# Altium footprint library LibMoritz.PcbLib: 10 footprints
Each footprint in its own frame and in the unit in brackets; x right, y up, seen from the top. Pads: shape width x height; smd on the part's side, far side on the other; paste and mask are expansions set on the pad; w line width, h text height; cw(c..) or ccw(c..) is an arc to the next point about the centre after c.
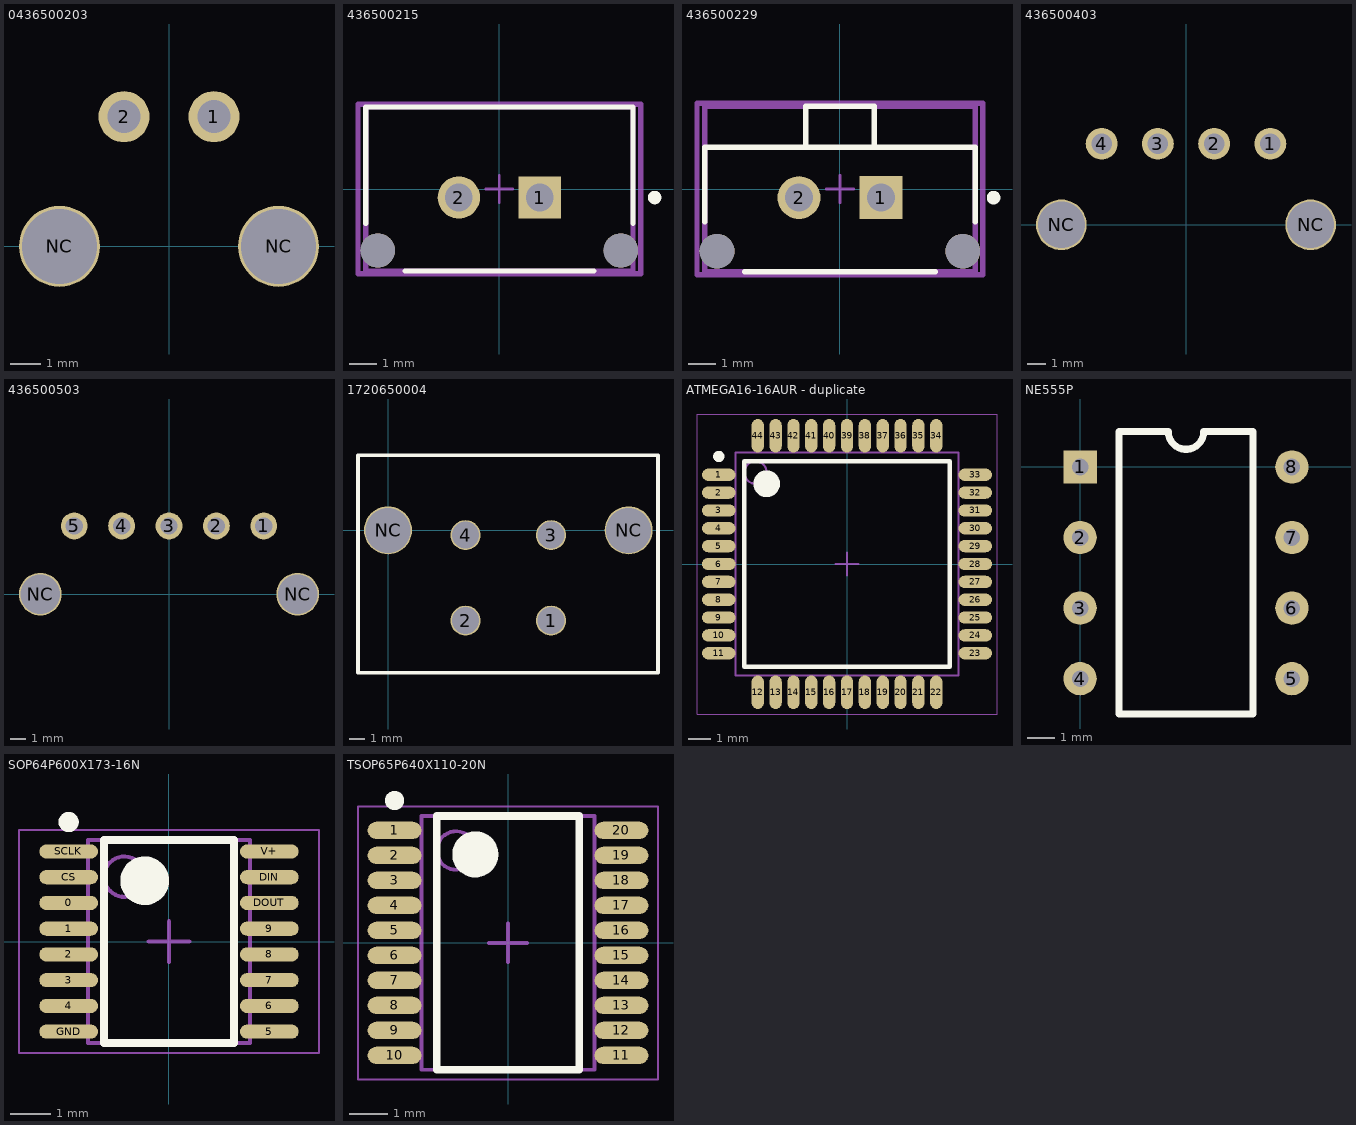
[diagram p0: the footprints below, top view; thin cyan lines are the x and y axes]

## 0436500203 [mm] "Micro-Fit 3.0 Right-Angle Header, 3.00mm Pitch, Single Row, 2 Circuits, with PCB Press-fit Metal Retention Clip, Tin, Glow-Wire Capable, Black"
pads (4):
  round 1.7 hole 1.1: 1(1.5,4.32) 2(-1.5,4.32)
  round 2.7 hole 2.5: NC(-3.65,0) NC(3.65,0)
3D body "436500203.stp": height 2.65, standoff -6.13, extent -4.825,-4.6 4.825,5.3

## 436500215 [mm] "Micro-Fit 3.0 Vertical Header, 3.00mm Pitch, Single Row, 2 Circuits"
pads (4):
  rect 1.57x1.57 hole 1.02 paste-1000 mask+0: 1(1.5,-0.315)
  round 1.57 hole 1.02 paste-1000 mask+0: 2(-1.5,-0.315)
  round 1.27 hole 1.27 unplated paste-1000 mask+0: ""(-4.5,-2.275) ""(4.5,-2.275)
Top Overlay:
  circle w0.25: c5.75,-0.315 r0.125
  lines w0.2: -4.95,-1.265 -4.95,3.035 4.95,3.035 4.95,-1.265 ; -3.49,-3.035 3.49,-3.035
Mechanical 10:
  lines w0.2: -5.235,-3.135 -5.235,3.135 5.235,3.135 5.235,-3.135 -5.235,-3.135
  text ".Designator" at 0,0.188 h1
Mechanical 12:
  lines w0.2: -4.95,-3.035 -4.95,3.035 4.95,3.035 4.95,-3.035 -4.95,-3.035
Mechanical 15:
  lines w0.1: -0.5,0 0.5,0 ; 0,-0.5 0,0.5
  lines w0.2: -5.235,-3.135 -5.235,3.135 5.235,3.135 5.235,-3.135 -5.235,-3.135
3D body "Conn_Molex_436500215_eec.STEP": height 0.25, standoff 0, extent -5.235,-3.135 5.235,3.135

## 436500229 [mm] "Micro-Fit 3.0 Vertical Header, 3.00mm Pitch, Single Row, 2 Circuits"
pads (4):
  rect 1.57x1.57 hole 1.02 paste-1000 mask+0: 1(1.5,-0.315)
  round 1.57 hole 1.02 paste-1000 mask+0: 2(-1.5,-0.315)
  round 1.27 hole 1.27 unplated paste-1000 mask+0: ""(-4.5,-2.275) ""(4.5,-2.275)
Top Overlay:
  circle w0.25: c5.625,-0.315 r0.125
  lines w0.2: -4.95,-1.2 -4.95,1.535 4.95,1.535 4.95,-1.2 ; -3.49,-3.035 3.49,-3.035 ; -1.25,1.535 -1.25,3.035 1.25,3.035 1.25,1.535
Mechanical 10:
  lines w0.2: -5.235,-3.135 -5.235,3.135 5.235,3.135 5.235,-3.135 -5.235,-3.135
  text ".Designator" at 0,0 h1
Mechanical 12:
  lines w0.2: -4.95,-3.035 -4.95,3.035 4.95,3.035 4.95,-3.035 -4.95,-3.035
Mechanical 15:
  lines w0.1: -0.5,0 0.5,0 ; 0,-0.5 0,0.5
  lines w0.2: -5.235,-3.135 -5.235,3.135 5.235,3.135 5.235,-3.135 -5.235,-3.135
3D body "Conn_Molex_43650-0229_eec.STEP": height 0.25, standoff 0, extent -5.235,-3.135 5.235,3.135

## 436500403 [mm] "Micro-Fit 3.0 Right-Angle Header, 3.00mm Pitch, Single Row, 4 Circuits, with PCB Press-fit Metal Retention Clip, Tin, Glow-Wire Capable, Black"
pads (6):
  round 1.7 hole 1.1: 1(4.5,4.32) 2(1.5,4.32) 3(-1.5,4.32) 4(-4.5,4.32)
  round 2.7 hole 2.5: NC(-6.65,0) NC(6.65,0)
3D body "436500403.stp": height 6.13, standoff -2.65, extent -7.825,-4.6 7.825,5.3

## 436500503 [mm] "Micro-Fit 3.0 Right-Angle Header, 3.00mm Pitch, Single Row, 5 Circuits, with PCB Press-fit Metal Retention Clip, Tin, Glow-Wire Capable, Black"
pads (7):
  round 1.7 hole 1.1: 1(6,4.32) 2(3,4.32) 3(0,4.32) 4(-3,4.32) 5(-6,4.32)
  round 2.7 hole 2.5: NC(-8.15,0) NC(8.15,0)
3D body "436500503.stp": height 6.13, standoff -2.65, extent -9.32,-4.6 9.32,5.3

## 1720650004 [mm] "Mega-Fit Vertical Header, Through Hole, 5.70mm Pitch, Dual Row, 4 Circuits, 0.38µm"
pads (6):
  round 2 hole 1.8: 1(10.87,-6.025) 2(5.17,-6.025) 3(10.87,-0.325) 4(5.17,-0.325)
  round 3.2 hole 3: NC(0,0) NC(16.04,0)
Top Overlay:
  lines w0.254: -2,-9.5 -2,5 18,5 18,-9.5 -2,-9.5
3D body "1720650004.stp": height 15.13, standoff -3.45, extent -1.546,-9.369 17.546,4.665

## ATMEGA16-16AUR - duplicate [mm] "8-Bit Mikrocontroller - MCU AVR,128KB FLASH 4KB EE 4KB SRAM"
height 1.2
pads (44):
  oval 1.5x0.55 smd: 1(-5.75,4) 2(-5.75,3.2) 3(-5.75,2.4) 4(-5.75,1.6) 5(-5.75,0.8) 6(-5.75,0) 7(-5.75,-0.8) 8(-5.75,-1.6) 9(-5.75,-2.4) 10(-5.75,-3.2) 11(-5.75,-4) 23(5.75,-4) 24(5.75,-3.2) 25(5.75,-2.4) 26(5.75,-1.6) 27(5.75,-0.8) 28(5.75,0) 29(5.75,0.8) 30(5.75,1.6) 31(5.75,2.4) 32(5.75,3.2) 33(5.75,4)
  oval 0.55x1.5 smd: 12(-4,-5.75) 13(-3.2,-5.75) 14(-2.4,-5.75) 15(-1.6,-5.75) 16(-0.8,-5.75) 17(0,-5.75) 18(0.8,-5.75) 19(1.6,-5.75) 20(2.4,-5.75) 21(3.2,-5.75) 22(4,-5.75) 34(4,5.75) 35(3.2,5.75) 36(2.4,5.75) 37(1.6,5.75) 38(0.8,5.75) 39(0,5.75) 40(-0.8,5.75) 41(-1.6,5.75) 42(-2.4,5.75) 43(-3.2,5.75) 44(-4,5.75)
Top Overlay:
  circle w0.25: c-5.75,4.825 r0.125
  circle w0.6: c-3.6,3.6 r0.3
  lines w0.2: -4.6,-4.6 -4.6,4.6 4.6,4.6 4.6,-4.6 -4.6,-4.6
Mechanical 13:
  circle w0.1: c-4.1,4.1 r0.5
  lines w0.1: -5,-5 -5,5 5,5 5,-5 -5,-5
Mechanical 15:
  lines w0.05: -6.725,-6.725 -6.725,6.725 6.725,6.725 6.725,-6.725 -6.725,-6.725
  lines w0.1: -0.5,0 0.5,0 ; 0,-0.5 0,0.5
3D body "TQFP80P1200X1200X120-44N.step": height 1.2, standoff 0, extent -6,-6 6,6

## NE555P [mm]
pads (8):
  rect 1.2x1.2 hole 0.6: 1(0,0)
  round 1.2 hole 0.6: 2(0,-2.54) 3(0,-5.08) 4(0,-7.62) 5(7.62,-7.62) 6(7.62,-5.08) 7(7.62,-2.54) 8(7.62,0)
Top Overlay:
  lines w0.254: 1.399,-8.89 6.221,-8.89 6.221,1.27 4.445,1.27 cw(c3.81,1.27) 3.175,1.27 1.399,1.27 1.399,-8.89

## SOP64P600X173-16N [mm] "SOP, 16-Leads, Body 4,90x3,90mm, Pitch 0,64mm, IPC Medium Density"
height 1.73
pads (16):
  oval 1.45x0.35 smd: 0(-2.475,0.953) 1(-2.475,0.318) 2(-2.475,-0.318) 3(-2.475,-0.953) 4(-2.475,-1.587) 5(2.475,-2.222) 6(2.475,-1.587) 7(2.475,-0.953) 8(2.475,-0.318) 9(2.475,0.318) CS(-2.475,1.587) DIN(2.475,1.587) DOUT(2.475,0.953) GND(-2.475,-2.222) SCLK(-2.475,2.222) V+(2.475,2.222)
Top Overlay:
  circle w0.6: c-0.6,1.5 r0.3
  circle w0.25: c-2.475,2.947 r0.125
  lines w0.2: -1.6,-2.5 1.6,-2.5 1.6,2.5 -1.6,2.5 -1.6,-2.5
Mechanical 13:
  circle w0.1: c-1.1,1.6 r0.5
  lines w0.1: -2,-2.5 2,-2.5 2,2.5 -2,2.5 -2,-2.5
Mechanical 15:
  lines w0.05: -3.7,-2.75 3.7,-2.75 3.7,2.75 -3.7,2.75 -3.7,-2.75
  lines w0.1: -0.5,0 0.5,0 ; 0,-0.5 0,0.5
3D body: height 1.73, standoff 0.1, extent -2,-2.5 2,2.5

## TSOP65P640X110-20N [mm] "TSOP, 20-Leads, Body 6,50x4,40mm, Pitch 0,65mm, IPC Medium Density"
height 1.1
pads (20):
  oval 1.4x0.45 smd: 1(-2.95,2.925) 2(-2.95,2.275) 3(-2.95,1.625) 4(-2.95,0.975) 5(-2.95,0.325) 6(-2.95,-0.325) 7(-2.95,-0.975) 8(-2.95,-1.625) 9(-2.95,-2.275) 10(-2.95,-2.925) 11(2.95,-2.925) 12(2.95,-2.275) 13(2.95,-1.625) 14(2.95,-0.975) 15(2.95,-0.325) 16(2.95,0.325) 17(2.95,0.975) 18(2.95,1.625) 19(2.95,2.275) 20(2.95,2.925)
Top Overlay:
  circle w0.25: c-2.95,3.7 r0.125
  circle w0.6: c-0.85,2.3 r0.3
  lines w0.2: -1.85,-3.3 -1.85,3.3 1.85,3.3 1.85,-3.3 -1.85,-3.3
Mechanical 13:
  circle w0.1: c-1.35,2.4 r0.5
  lines w0.1: -2.25,-3.3 -2.25,3.3 2.25,3.3 2.25,-3.3 -2.25,-3.3
Mechanical 15:
  lines w0.05: -3.9,-3.55 -3.9,3.55 3.9,3.55 3.9,-3.55 -3.9,-3.55
  lines w0.1: -0.5,0 0.5,0 ; 0,-0.5 0,0.5
3D body: height 1.1, standoff 0.05, extent -2.25,-3.3 2.25,3.3